# Altium schematic symbol library CC2541F256.SchLib: 1 symbol
Pins are listed as number, name and electrical type; pins without a type are passive.

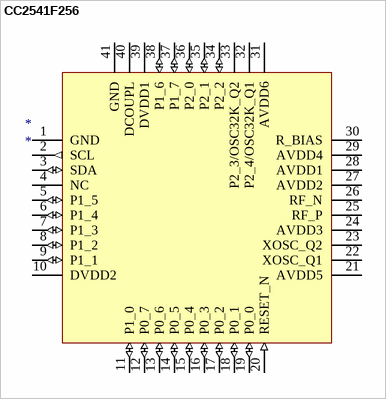
[diagram p0: symbol CC2541F256]

## CC2541F256
designator *
footprint RHA40_4P5X4P5 (CC2541 footprint)
pins: 1 GND (power), 2 SCL (out), 3 SDA (io), 4 NC, 5 P1_5 (io), 6 P1_4 (io), 7 P1_3 (io), 8 P1_2 (io), 9 P1_1 (io), 10 DVDD2 (power), 11 P1_0 (io), 12 P0_7 (io), 13 P0_6 (io), 14 P0_5 (io), 15 P0_4 (io), 16 P0_3 (io), 17 P0_2 (io), 18 P0_1 (io), 19 P0_0 (io), 20 RESET_N (in), 21 AVDD5 (power), 22 XOSC_Q1, 23 XOSC_Q2, 24 AVDD3 (power), 25 RF_P, 26 RF_N, 27 AVDD2 (power), 28 AVDD1 (power), 29 AVDD4 (power), 30 R_BIAS, 31 AVDD6 (power), 32 P2_4/OSC32K_Q1, 33 P2_3/OSC32K_Q2, 34 P2_2 (io), 35 P2_1 (io), 36 P2_0 (io), 37 P1_7 (io), 38 P1_6 (io), 39 DVDD1 (power), 40 DCOUPL, 41 GND